# Altium schematic symbol library GM-502B.SchLib: 1 symbol
Pins are listed as number, name and electrical type; pins without a type are passive.

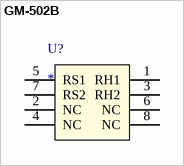
[diagram p0: symbol GM-502B]

## GM-502B
designator U?
pins: 1 RH1, 2 NC, 3 RH2, 4 NC, 5 RS1, 6 NC, 7 RS2, 8 NC